# Altium footprint library BGA20C40P5X4_205X185X50.PcbLib: 1 footprints
Each footprint in its own frame and in the unit in brackets; x right, y up, seen from the top. Pads: shape width x height; smd on the part's side, far side on the other; paste and mask are expansions set on the pad; w line width, h text height; cw(c..) or ccw(c..) is an arc to the next point about the centre after c.
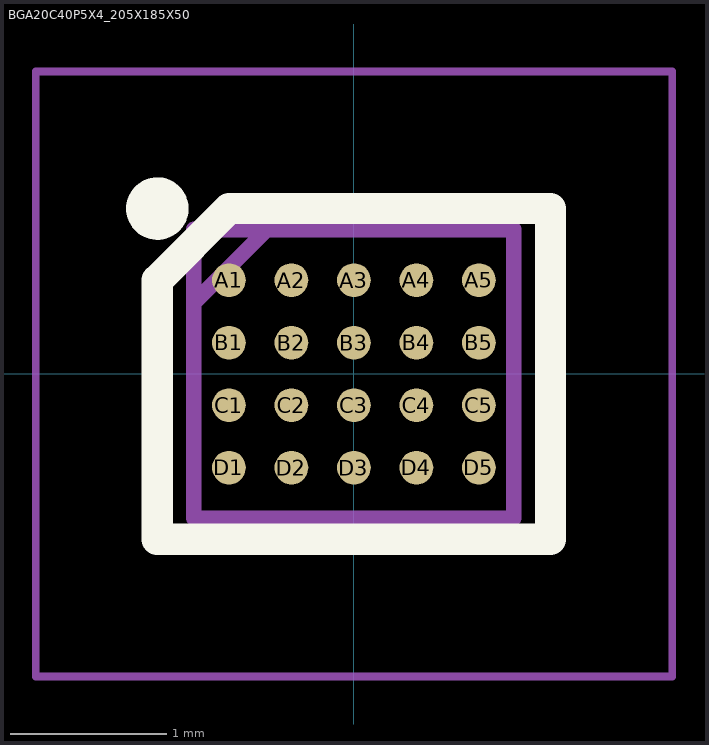
[diagram p0: the footprint, top view; thin cyan lines are the x and y axes]

## BGA20C40P5X4_205X185X50 [mm]
pads (20):
  round 0.216 smd: A1(-0.8,0.6) A2(-0.4,0.6) A3(0,0.6) A4(0.4,0.6) A5(0.8,0.6) B1(-0.8,0.2) B2(-0.4,0.2) B3(0,0.2) B4(0.4,0.2) B5(0.8,0.2) C1(-0.8,-0.2) C2(-0.4,-0.2) C3(0,-0.2) C4(0.4,-0.2) C5(0.8,-0.2) D1(-0.8,-0.6) D2(-0.4,-0.6) D3(0,-0.6) D4(0.4,-0.6) D5(0.8,-0.6)
Top Overlay:
  circle w0.2: c-1.258,1.058 r0.1
  lines w0.2: -1.258,-1.058 1.258,-1.058 1.258,1.058 -0.8,1.058 -1.258,0.6 -1.258,-1.058
Mechanical 15:
  lines w0.1: -1.024,0.456 -0.556,0.924 ; -1.024,-0.924 1.024,-0.924 1.024,0.924 -1.024,0.924 -1.024,-0.924
Mechanical 20:
  lines w0.05: -2.036,-1.937 2.037,-1.937 2.037,1.936 -2.036,1.936 -2.036,-1.937